# EAGLE library part RASPBERRY_PI_B+/PI2 (library RPiAutonomousCar)
Raspberry Pi B+ Basedon issue: Thursday, July 10, 2014 - Rev 1.2 LBR by Tim Rettmann 07-2014
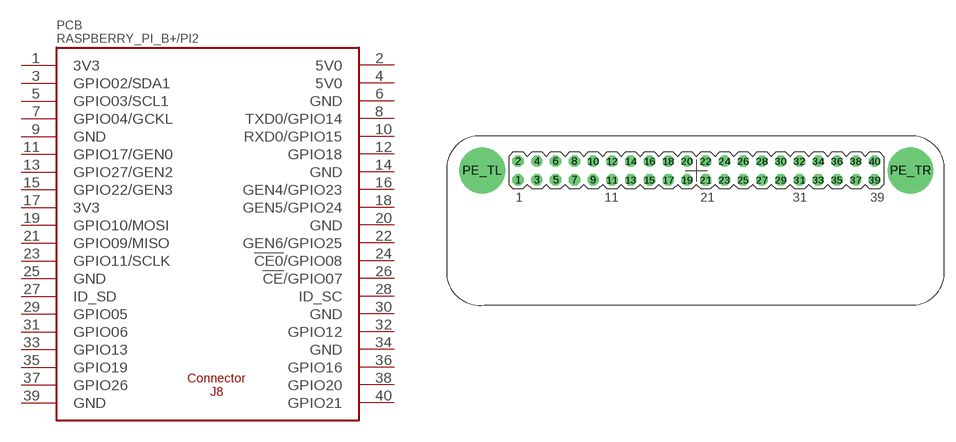
[diagram p0: symbol with the pads of RASPBERRY_PI_BPLUS_HEADER_ONLY; footprint RASPBERRY_PI_BPLUS_HEADER_ONLY]

Designator prefix PCB

## RASPBERRY_PI_B+/PI2_DIM  [RASPBERRY_PI_BPLUS_HEADER_ONLY]
1  3V3  pwr
2  5V0  pwr
3  GPIO02/SDA1
4  5V0  pwr
5  GPIO03/SCL1
6  GND  pwr
7  GPIO04/GCKL
8  TXD0/GPIO14
9  GND  pwr
10  RXD0/GPIO15
11  GPIO17/GEN0
12  GPIO18
13  GPIO27/GEN2
14  GND  pwr
15  GPIO22/GEN3
16  GEN4/GPIO23
17  3V3  pwr
18  GEN5/GPIO24
19  GPIO10/MOSI
20  GND  pwr
21  GPIO09/MISO
22  GEN6/GPIO25
23  GPIO11/SCLK
24  !CE0!/GPIO08
25  GND  pwr
26  !CE!/GPIO07
27  ID_SD
28  ID_SC
29  GPIO05
30  GND  pwr
31  GPIO06
32  GPIO12
33  GPIO13
34  GND  pwr
35  GPIO19
36  GPIO16
37  GPIO26
38  GPIO20
39  GND  pwr
40  GPIO21

## Footprint RASPBERRY_PI_BPLUS_HEADER_ONLY (pad centres in mm)
drill 1.016 octagon: 1 -22.11,8.05; 2 -22.11,10.59; 3 -19.57,8.05; 4 -19.57,10.59; 5 -17.03,8.05; 6 -17.03,10.59; 7 -14.49,8.05; 8 -14.49,10.59; 9 -11.95,8.05; 10 -11.95,10.59; 11 -9.41,8.05; 12 -9.41,10.59; 13 -6.87,8.05; 14 -6.87,10.59; 15 -4.33,8.05; 16 -4.33,10.59; 17 -1.79,8.05; 18 -1.79,10.59; 19 0.75,8.05; 20 0.75,10.59; 21 3.29,8.05; 22 3.29,10.59; 23 5.83,8.05; 24 5.83,10.59; 25 8.37,8.05; 26 8.37,10.59; 27 10.91,8.05; 28 10.91,10.59; 29 13.45,8.05; 30 13.45,10.59; 31 15.99,8.05; 32 15.99,10.59; 33 18.53,8.05; 34 18.53,10.59; 35 21.07,8.05; 36 21.07,10.59; 37 23.61,8.05; 38 23.61,10.59; 39 26.15,8.05; 40 26.15,10.59
drill 2.75 pad 6.2: PE_TL -26.98,9.32; PE_TR 31.02,9.32